# Altium schematic symbol library QUTMS_CANLibrary.SchLib: 6 symbols
Pins are listed as number, name and electrical type; pins without a type are passive.

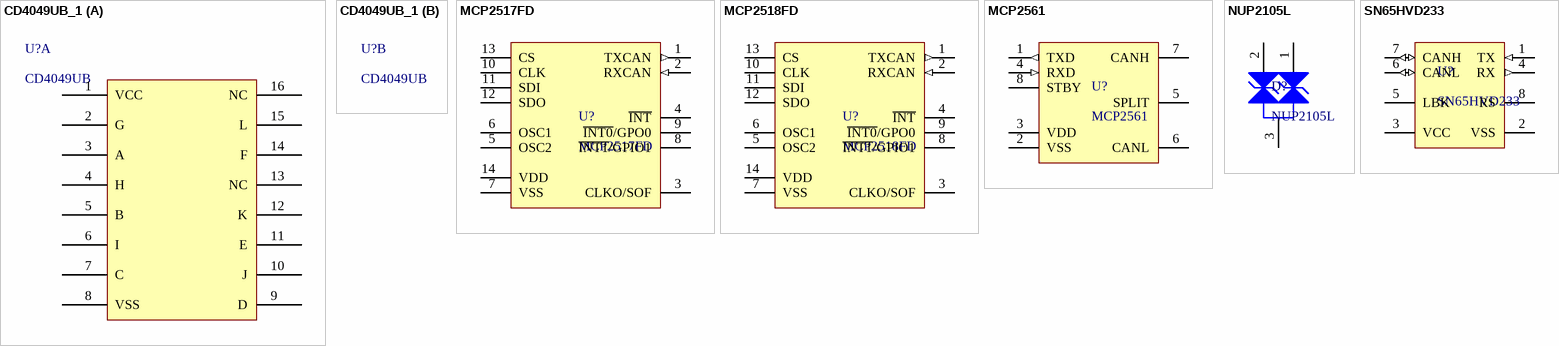
[diagram p0: symbols CD4049UB_1 to SN65HVD233]

## CD4049UB_1
designator U?, comment CD4049UB
footprint SOIC-16
part A pins: 1 VCC, 2 G, 3 A, 4 H, 5 B, 6 I, 7 C, 8 VSS, 9 D, 10 J, 11 E, 12 K, 13 NC, 14 F, 15 L, 16 NC

## MCP2517FD
designator U?
footprint MCP2517FD SOIC
pins: 1 TXCAN (out), 2 RXCAN (in), 3 CLKO/SOF, 4 ~{INT}, 5 OSC2, 6 OSC1, 7 VSS, 8 ~{INT1}/GPIO1, 9 ~{INT0}/GPO0, 10 CLK, 11 SDI, 12 SDO, 13 CS, 14 VDD

## MCP2518FD
designator U?
footprint MCP2517FD SOIC
pins: 1 TXCAN (out), 2 RXCAN (in), 3 CLKO/SOF, 4 ~{INT}, 5 OSC2, 6 OSC1, 7 VSS, 8 ~{INT1}/GPIO1, 9 ~{INT0}/GPO0, 10 CLK, 11 SDI, 12 SDO, 13 CS, 14 VDD

## MCP2561
designator U?
footprint MCP2561 SOIC
pins: 1 TXD (out), 2 VSS, 3 VDD, 4 RXD (in), 5 SPLIT, 6 CANL, 7 CANH, 8 STBY

## NUP2105L
designator D?
ComponentLink1Description: Datasheet; ComponentLink1URL: https://www.onsemi.cn/PowerSolutions/document/NUP2105L-D.PDF; ComponentLink2Description: LCSC; ComponentLink2URL: https://lcsc.com/product-detail/TVS_ON-Semiconductor-NUP2105LT1G_C14486.html; ComponentLink3Description: Digikey; ComponentLink3URL: https://www.digikey.com.au/product-detail/en/on-semiconductor/SZNUP2105LT1G/SZNUP2105LT1GOSCT-ND/3487669
footprint NUP2105L
pins: 1, 2, 3

## SN65HVD233
designator U?
ComponentLink1Description: LCSC; ComponentLink1URL: https://lcsc.com/product-detail/CAN-ICs_Texas-Instruments_SN65HVD233DRG4_Texas-Instruments-Texas-Instruments-SN65HVD233DRG4_C61643.html; ComponentLink2Description: Digikey; ComponentLink2URL: https://www.digikey.com.au/product-detail/en/texas-instruments/SN65HVD233DR/296-35967-1-ND/4134960; ComponentLink3Description: Datasheet; ComponentLink3URL: https://www.ti.com/lit/ds/symlink/sn65hvd233.pdf?ts=1588560888178; ComponentLink4Description: Ti Product Page; ComponentLink4URL: https://www.ti.com/product/SN65HVD233
footprint SN65HVD233DR
pins: 1 TX (in), 2 VSS, 3 VCC, 4 RX (out), 5 LBK, 6 CANL (io), 7 CANH (io), 8 RS